# Altium integrated library ISSI SRAM CellularRAM-Pseudo SRAM.IntLib: 34 symbols (part 1 of 2)
Pins are listed as number, name and electrical type; pins without a type are passive.

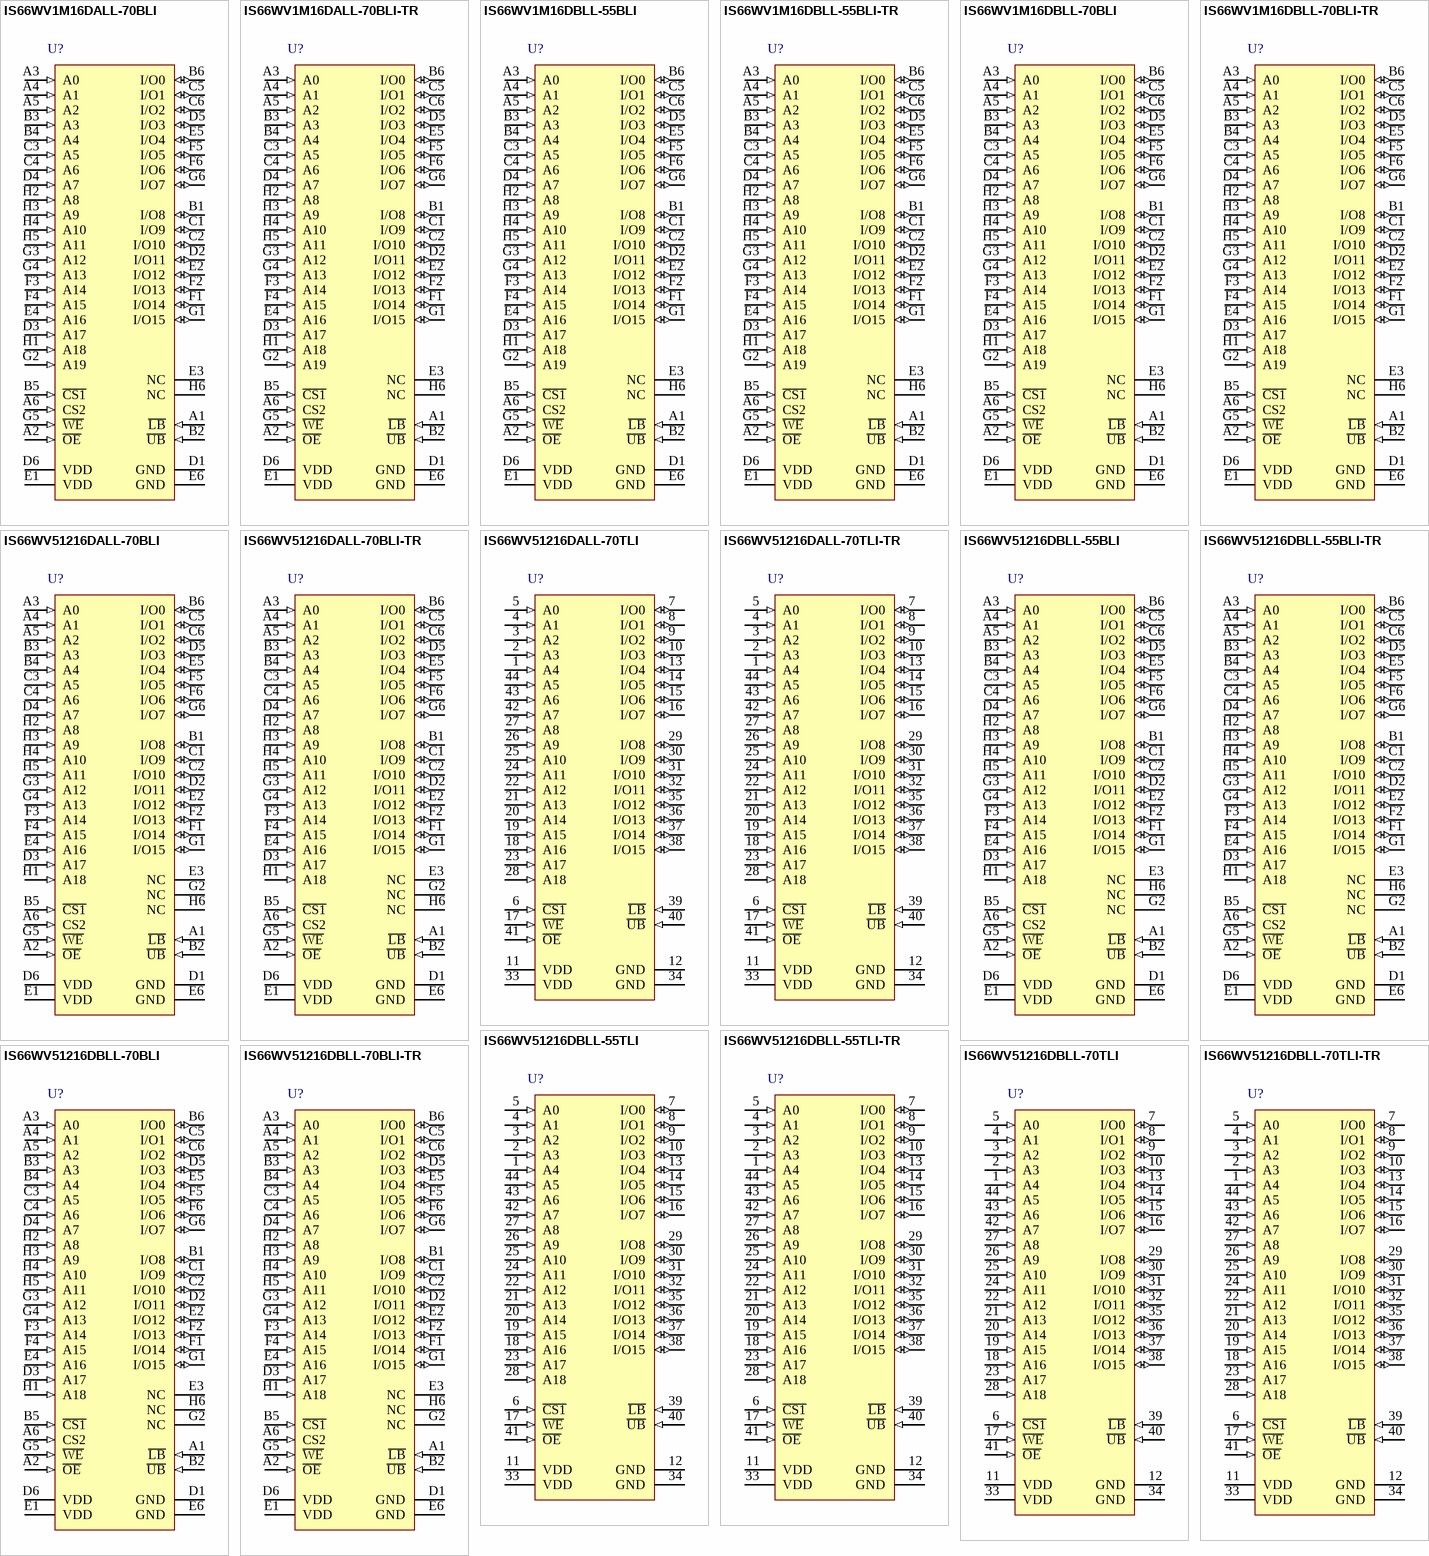
[diagram p0: symbols IS66WV1M16DALL-70BLI to IS66WV51216DBLL-70TLI-TR]

## IS66WV1M16DALL-70BLI
designator U?
16 M Low Voltage, Ultra Low Power Pseudo CMOS SRAM, 1 M x 16, -40 to 85 degC, 48-Pin BGA (TF-BGA-48), Pb-Free; Manufacturer: Integrated Silicon Solution Inc (ISSI); PartNumber: IS66WV1M16DALL-70BLI; Density: 16M; Organization: 1M x 16; Packing: Tray / Tube; Speed (ns): 70; DatasheetVersion: Rev. A; PackageVersion: Rev. C, 08/2008; PackageReference: TF-BGA-48; PackageDescription: 48-Pin 6 x 8 mm TF-BGA, Pitch 0.75 mm; RoHS: Pb-Free; Mounting Technology: Surface Mount; Code_JEDEC: MO-207; ComponentLink1Description: Manufacturer URL; ComponentLink1URL: http://www.issi.com/US/index.shtml; ComponentLink2Description: Datasheet; ComponentLink2URL: http://www.issi.com/WW/pdf/66WV1M16DALL-DBLL.pdf; ComponentLink3Description: Package Specification; ComponentLink3URL: http://www.issi.com/WW/pdf/61-64WV25616.pdf
footprint ISSI-TF-BGA-48-6000X8000DE (BGA, 48-Balls, Body 8x6mm, Pitch 0.75mm)
pins: A1 ~{LB} (in) "Lower-byte Control (I/O0-I/O7)", A2 ~{OE} (in) "Output Enable Input", A3 A0 (in) "Address Input", A4 A1 (in) "Address Input", A5 A2 (in) "Address Input", A6 CS2 (in) "Chip Enable Input", B1 I/O8 (io) "Data Input/Output", B2 ~{UB} (in) "Upper-byte Control (I/O8-I/O15)", B3 A3 (in) "Address Input", B4 A4 (in) "Address Input", B5 ~{CS1} (in) "Chip Enable Input", B6 I/O0 (io) "Data Input/Output", C1 I/O9 (io) "Data Input/Output", C2 I/O10 (io) "Data Input/Output", C3 A5 (in) "Address Input", C4 A6 (in) "Address Input", C5 I/O1 (io) "Data Input/Output", C6 I/O2 (io) "Data Input/Output", D1 GND (power) "Ground", D2 I/O11 (io) "Data Input/Output", D3 A17 (in) "Address Input", D4 A7 (in) "Address Input", D5 I/O3 (io) "Data Input/Output", D6 VDD (power) "Power", E1 VDD (power) "Power", E2 I/O12 (io) "Data Input/Output", E3 NC "No Connection", E4 A16 (in) "Address Input", E5 I/O4 (io) "Data Input/Output", E6 GND (power) "Ground", F1 I/O14 (io) "Data Input/Output", F2 I/O13 (io) "Data Input/Output", F3 A14 (in) "Address Input", F4 A15 (in) "Address Input", F5 I/O5 (io) "Data Input/Output", F6 I/O6 (io) "Data Input/Output", G1 I/O15 (io) "Data Input/Output", G2 A19 (in) "No Connection", G3 A12 (in) "Address Input", G4 A13 (in) "Address Input", G5 ~{WE} (in) "Write Enable Input", G6 I/O7 (io) "Data Input/Output", H1 A18 (in) "Address Input", H2 A8 (in) "Address Input", H3 A9 (in) "Address Input", H4 A10 (in) "Address Input", H5 A11 (in) "Address Input", H6 NC "No Connection"

## IS66WV1M16DALL-70BLI-TR
designator U?
16 M Low Voltage, Ultra Low Power Pseudo CMOS SRAM, 1 M x 16, -40 to 85 degC, 48-Pin BGA (TF-BGA-48), Pb-Free; Manufacturer: Integrated Silicon Solution Inc (ISSI); PartNumber: IS66WV1M16DALL-70BLI-TR; Density: 16M; Organization: 1M x 16; Packing: Tape & Reel; Speed (ns): 70; DatasheetVersion: Rev. A; PackageVersion: Rev. C, 08/2008; PackageReference: TF-BGA-48; PackageDescription: 48-Pin 6 x 8 mm TF-BGA, Pitch 0.75 mm; RoHS: Pb-Free; Mounting Technology: Surface Mount; Code_JEDEC: MO-207; ComponentLink1Description: Manufacturer URL; ComponentLink1URL: http://www.issi.com/US/index.shtml; ComponentLink2Description: Datasheet; ComponentLink2URL: http://www.issi.com/WW/pdf/66WV1M16DALL-DBLL.pdf; ComponentLink3Description: Package Specification; ComponentLink3URL: http://www.issi.com/WW/pdf/61-64WV25616.pdf
footprint ISSI-TF-BGA-48-6000X8000DE (BGA, 48-Balls, Body 8x6mm, Pitch 0.75mm)
pins: A1 ~{LB} (in) "Lower-byte Control (I/O0-I/O7)", A2 ~{OE} (in) "Output Enable Input", A3 A0 (in) "Address Input", A4 A1 (in) "Address Input", A5 A2 (in) "Address Input", A6 CS2 (in) "Chip Enable Input", B1 I/O8 (io) "Data Input/Output", B2 ~{UB} (in) "Upper-byte Control (I/O8-I/O15)", B3 A3 (in) "Address Input", B4 A4 (in) "Address Input", B5 ~{CS1} (in) "Chip Enable Input", B6 I/O0 (io) "Data Input/Output", C1 I/O9 (io) "Data Input/Output", C2 I/O10 (io) "Data Input/Output", C3 A5 (in) "Address Input", C4 A6 (in) "Address Input", C5 I/O1 (io) "Data Input/Output", C6 I/O2 (io) "Data Input/Output", D1 GND (power) "Ground", D2 I/O11 (io) "Data Input/Output", D3 A17 (in) "Address Input", D4 A7 (in) "Address Input", D5 I/O3 (io) "Data Input/Output", D6 VDD (power) "Power", E1 VDD (power) "Power", E2 I/O12 (io) "Data Input/Output", E3 NC "No Connection", E4 A16 (in) "Address Input", E5 I/O4 (io) "Data Input/Output", E6 GND (power) "Ground", F1 I/O14 (io) "Data Input/Output", F2 I/O13 (io) "Data Input/Output", F3 A14 (in) "Address Input", F4 A15 (in) "Address Input", F5 I/O5 (io) "Data Input/Output", F6 I/O6 (io) "Data Input/Output", G1 I/O15 (io) "Data Input/Output", G2 A19 (in) "No Connection", G3 A12 (in) "Address Input", G4 A13 (in) "Address Input", G5 ~{WE} (in) "Write Enable Input", G6 I/O7 (io) "Data Input/Output", H1 A18 (in) "Address Input", H2 A8 (in) "Address Input", H3 A9 (in) "Address Input", H4 A10 (in) "Address Input", H5 A11 (in) "Address Input", H6 NC "No Connection"

## IS66WV1M16DBLL-55BLI
designator U?
16 M Low Voltage, Ultra Low Power Pseudo CMOS SRAM, 1 M x 16, -40 to 85 degC, 48-Pin BGA (TF-BGA-48), Pb-Free; Manufacturer: Integrated Silicon Solution Inc (ISSI); PartNumber: IS66WV1M16DBLL-55BLI; Density: 16M; Organization: 1M x 16; Packing: Tray / Tube; Speed (ns): 55; DatasheetVersion: Rev. A; PackageVersion: Rev. C, 08/2008; PackageReference: TF-BGA-48; PackageDescription: 48-Pin 6 x 8 mm TF-BGA, Pitch 0.75 mm; Supplier 1: Newark; Supplier Part Number 1: 18W6964; Supplier 2: Mouser; Supplier Part Number 2: 870-66V1M16DBLL55BLI; RoHS: Pb-Free; Mounting Technology: Surface Mount; Code_JEDEC: MO-207; ComponentLink1Description: Manufacturer URL; ComponentLink1URL: http://www.issi.com/US/index.shtml; ComponentLink2Description: Datasheet; ComponentLink2URL: http://www.issi.com/WW/pdf/66WV1M16DALL-DBLL.pdf; ComponentLink3Description: Package Specification; ComponentLink3URL: http://www.issi.com/WW/pdf/61-64WV25616.pdf
footprint ISSI-TF-BGA-48-6000X8000DE (BGA, 48-Balls, Body 8x6mm, Pitch 0.75mm)
pins: A1 ~{LB} (in) "Lower-byte Control (I/O0-I/O7)", A2 ~{OE} (in) "Output Enable Input", A3 A0 (in) "Address Input", A4 A1 (in) "Address Input", A5 A2 (in) "Address Input", A6 CS2 (in) "Chip Enable Input", B1 I/O8 (io) "Data Input/Output", B2 ~{UB} (in) "Upper-byte Control (I/O8-I/O15)", B3 A3 (in) "Address Input", B4 A4 (in) "Address Input", B5 ~{CS1} (in) "Chip Enable Input", B6 I/O0 (io) "Data Input/Output", C1 I/O9 (io) "Data Input/Output", C2 I/O10 (io) "Data Input/Output", C3 A5 (in) "Address Input", C4 A6 (in) "Address Input", C5 I/O1 (io) "Data Input/Output", C6 I/O2 (io) "Data Input/Output", D1 GND (power) "Ground", D2 I/O11 (io) "Data Input/Output", D3 A17 (in) "Address Input", D4 A7 (in) "Address Input", D5 I/O3 (io) "Data Input/Output", D6 VDD (power) "Power", E1 VDD (power) "Power", E2 I/O12 (io) "Data Input/Output", E3 NC "No Connection", E4 A16 (in) "Address Input", E5 I/O4 (io) "Data Input/Output", E6 GND (power) "Ground", F1 I/O14 (io) "Data Input/Output", F2 I/O13 (io) "Data Input/Output", F3 A14 (in) "Address Input", F4 A15 (in) "Address Input", F5 I/O5 (io) "Data Input/Output", F6 I/O6 (io) "Data Input/Output", G1 I/O15 (io) "Data Input/Output", G2 A19 (in) "No Connection", G3 A12 (in) "Address Input", G4 A13 (in) "Address Input", G5 ~{WE} (in) "Write Enable Input", G6 I/O7 (io) "Data Input/Output", H1 A18 (in) "Address Input", H2 A8 (in) "Address Input", H3 A9 (in) "Address Input", H4 A10 (in) "Address Input", H5 A11 (in) "Address Input", H6 NC "No Connection"

## IS66WV1M16DBLL-55BLI-TR
designator U?
16 M Low Voltage, Ultra Low Power Pseudo CMOS SRAM, 1 M x 16, -40 to 85 degC, 48-Pin BGA (TF-BGA-48), Pb-Free; Manufacturer: Integrated Silicon Solution Inc (ISSI); PartNumber: IS66WV1M16DBLL-55BLI-TR; Density: 16M; Organization: 1M x 16; Packing: Tape & Reel; Speed (ns): 55; DatasheetVersion: Rev. A; PackageVersion: Rev. C, 08/2008; PackageReference: TF-BGA-48; PackageDescription: 48-Pin 6 x 8 mm TF-BGA, Pitch 0.75 mm; Supplier 1: Newark; Supplier Part Number 1: 18W6965; Supplier 2: Mouser; Supplier Part Number 2: 870-66WV1M16D55BLITR; RoHS: Pb-Free; Mounting Technology: Surface Mount; Code_JEDEC: MO-207; ComponentLink1Description: Manufacturer URL; ComponentLink1URL: http://www.issi.com/US/index.shtml; ComponentLink2Description: Datasheet; ComponentLink2URL: http://www.issi.com/WW/pdf/66WV1M16DALL-DBLL.pdf; ComponentLink3Description: Package Specification; ComponentLink3URL: http://www.issi.com/WW/pdf/61-64WV25616.pdf
footprint ISSI-TF-BGA-48-6000X8000DE (BGA, 48-Balls, Body 8x6mm, Pitch 0.75mm)
pins: A1 ~{LB} (in) "Lower-byte Control (I/O0-I/O7)", A2 ~{OE} (in) "Output Enable Input", A3 A0 (in) "Address Input", A4 A1 (in) "Address Input", A5 A2 (in) "Address Input", A6 CS2 (in) "Chip Enable Input", B1 I/O8 (io) "Data Input/Output", B2 ~{UB} (in) "Upper-byte Control (I/O8-I/O15)", B3 A3 (in) "Address Input", B4 A4 (in) "Address Input", B5 ~{CS1} (in) "Chip Enable Input", B6 I/O0 (io) "Data Input/Output", C1 I/O9 (io) "Data Input/Output", C2 I/O10 (io) "Data Input/Output", C3 A5 (in) "Address Input", C4 A6 (in) "Address Input", C5 I/O1 (io) "Data Input/Output", C6 I/O2 (io) "Data Input/Output", D1 GND (power) "Ground", D2 I/O11 (io) "Data Input/Output", D3 A17 (in) "Address Input", D4 A7 (in) "Address Input", D5 I/O3 (io) "Data Input/Output", D6 VDD (power) "Power", E1 VDD (power) "Power", E2 I/O12 (io) "Data Input/Output", E3 NC "No Connection", E4 A16 (in) "Address Input", E5 I/O4 (io) "Data Input/Output", E6 GND (power) "Ground", F1 I/O14 (io) "Data Input/Output", F2 I/O13 (io) "Data Input/Output", F3 A14 (in) "Address Input", F4 A15 (in) "Address Input", F5 I/O5 (io) "Data Input/Output", F6 I/O6 (io) "Data Input/Output", G1 I/O15 (io) "Data Input/Output", G2 A19 (in) "No Connection", G3 A12 (in) "Address Input", G4 A13 (in) "Address Input", G5 ~{WE} (in) "Write Enable Input", G6 I/O7 (io) "Data Input/Output", H1 A18 (in) "Address Input", H2 A8 (in) "Address Input", H3 A9 (in) "Address Input", H4 A10 (in) "Address Input", H5 A11 (in) "Address Input", H6 NC "No Connection"

## IS66WV1M16DBLL-70BLI
designator U?
16 M Low Voltage, Ultra Low Power Pseudo CMOS SRAM, 1 M x 16, -40 to 85 degC, 48-Pin BGA (TF-BGA-48), Pb-Free; Manufacturer: Integrated Silicon Solution Inc (ISSI); PartNumber: IS66WV1M16DBLL-70BLI; Density: 16M; Organization: 1M x 16; Packing: Tray / Tube; Speed (ns): 70; DatasheetVersion: Rev. A; PackageVersion: Rev. C, 08/2008; PackageReference: TF-BGA-48; PackageDescription: 48-Pin 6 x 8 mm TF-BGA, Pitch 0.75 mm; RoHS: Pb-Free; Mounting Technology: Surface Mount; Code_JEDEC: MO-207; ComponentLink1Description: Manufacturer URL; ComponentLink1URL: http://www.issi.com/US/index.shtml; ComponentLink2Description: Datasheet; ComponentLink2URL: http://www.issi.com/WW/pdf/66WV1M16DALL-DBLL.pdf; ComponentLink3Description: Package Specification; ComponentLink3URL: http://www.issi.com/WW/pdf/61-64WV25616.pdf
footprint ISSI-TF-BGA-48-6000X8000DE (BGA, 48-Balls, Body 8x6mm, Pitch 0.75mm)
pins: A1 ~{LB} (in) "Lower-byte Control (I/O0-I/O7)", A2 ~{OE} (in) "Output Enable Input", A3 A0 (in) "Address Input", A4 A1 (in) "Address Input", A5 A2 (in) "Address Input", A6 CS2 (in) "Chip Enable Input", B1 I/O8 (io) "Data Input/Output", B2 ~{UB} (in) "Upper-byte Control (I/O8-I/O15)", B3 A3 (in) "Address Input", B4 A4 (in) "Address Input", B5 ~{CS1} (in) "Chip Enable Input", B6 I/O0 (io) "Data Input/Output", C1 I/O9 (io) "Data Input/Output", C2 I/O10 (io) "Data Input/Output", C3 A5 (in) "Address Input", C4 A6 (in) "Address Input", C5 I/O1 (io) "Data Input/Output", C6 I/O2 (io) "Data Input/Output", D1 GND (power) "Ground", D2 I/O11 (io) "Data Input/Output", D3 A17 (in) "Address Input", D4 A7 (in) "Address Input", D5 I/O3 (io) "Data Input/Output", D6 VDD (power) "Power", E1 VDD (power) "Power", E2 I/O12 (io) "Data Input/Output", E3 NC "No Connection", E4 A16 (in) "Address Input", E5 I/O4 (io) "Data Input/Output", E6 GND (power) "Ground", F1 I/O14 (io) "Data Input/Output", F2 I/O13 (io) "Data Input/Output", F3 A14 (in) "Address Input", F4 A15 (in) "Address Input", F5 I/O5 (io) "Data Input/Output", F6 I/O6 (io) "Data Input/Output", G1 I/O15 (io) "Data Input/Output", G2 A19 (in) "No Connection", G3 A12 (in) "Address Input", G4 A13 (in) "Address Input", G5 ~{WE} (in) "Write Enable Input", G6 I/O7 (io) "Data Input/Output", H1 A18 (in) "Address Input", H2 A8 (in) "Address Input", H3 A9 (in) "Address Input", H4 A10 (in) "Address Input", H5 A11 (in) "Address Input", H6 NC "No Connection"

## IS66WV1M16DBLL-70BLI-TR
designator U?
16 M Low Voltage, Ultra Low Power Pseudo CMOS SRAM, 1 M x 16, -40 to 85 degC, 48-Pin BGA (TF-BGA-48), Pb-Free; Manufacturer: Integrated Silicon Solution Inc (ISSI); PartNumber: IS66WV1M16DBLL-70BLI-TR; Density: 16M; Organization: 1M x 16; Packing: Tape & Reel; Speed (ns): 70; DatasheetVersion: Rev. A; PackageVersion: Rev. C, 08/2008; PackageReference: TF-BGA-48; PackageDescription: 48-Pin 6 x 8 mm TF-BGA, Pitch 0.75 mm; RoHS: Pb-Free; Mounting Technology: Surface Mount; Code_JEDEC: MO-207; ComponentLink1Description: Manufacturer URL; ComponentLink1URL: http://www.issi.com/US/index.shtml; ComponentLink2Description: Datasheet; ComponentLink2URL: http://www.issi.com/WW/pdf/66WV1M16DALL-DBLL.pdf; ComponentLink3Description: Package Specification; ComponentLink3URL: http://www.issi.com/WW/pdf/61-64WV25616.pdf
footprint ISSI-TF-BGA-48-6000X8000DE (BGA, 48-Balls, Body 8x6mm, Pitch 0.75mm)
pins: A1 ~{LB} (in) "Lower-byte Control (I/O0-I/O7)", A2 ~{OE} (in) "Output Enable Input", A3 A0 (in) "Address Input", A4 A1 (in) "Address Input", A5 A2 (in) "Address Input", A6 CS2 (in) "Chip Enable Input", B1 I/O8 (io) "Data Input/Output", B2 ~{UB} (in) "Upper-byte Control (I/O8-I/O15)", B3 A3 (in) "Address Input", B4 A4 (in) "Address Input", B5 ~{CS1} (in) "Chip Enable Input", B6 I/O0 (io) "Data Input/Output", C1 I/O9 (io) "Data Input/Output", C2 I/O10 (io) "Data Input/Output", C3 A5 (in) "Address Input", C4 A6 (in) "Address Input", C5 I/O1 (io) "Data Input/Output", C6 I/O2 (io) "Data Input/Output", D1 GND (power) "Ground", D2 I/O11 (io) "Data Input/Output", D3 A17 (in) "Address Input", D4 A7 (in) "Address Input", D5 I/O3 (io) "Data Input/Output", D6 VDD (power) "Power", E1 VDD (power) "Power", E2 I/O12 (io) "Data Input/Output", E3 NC "No Connection", E4 A16 (in) "Address Input", E5 I/O4 (io) "Data Input/Output", E6 GND (power) "Ground", F1 I/O14 (io) "Data Input/Output", F2 I/O13 (io) "Data Input/Output", F3 A14 (in) "Address Input", F4 A15 (in) "Address Input", F5 I/O5 (io) "Data Input/Output", F6 I/O6 (io) "Data Input/Output", G1 I/O15 (io) "Data Input/Output", G2 A19 (in) "No Connection", G3 A12 (in) "Address Input", G4 A13 (in) "Address Input", G5 ~{WE} (in) "Write Enable Input", G6 I/O7 (io) "Data Input/Output", H1 A18 (in) "Address Input", H2 A8 (in) "Address Input", H3 A9 (in) "Address Input", H4 A10 (in) "Address Input", H5 A11 (in) "Address Input", H6 NC "No Connection"

## IS66WV51216DALL-70BLI
designator U?
8 M Low Voltage, Ultra Low Power Pseudo CMOS SRAM, 512 K x 16, -40 to 85 degC, 48-Pin BGA (TF-BGA-48), Pb-Free; Manufacturer: Integrated Silicon Solution Inc (ISSI); PartNumber: IS66WV51216DALL-70BLI; Density: 8M; Packing: Tray / Tube; Speed (ns): 70; DatasheetVersion: Rev. A; PackageVersion: Rev. C, 08/2008; PackageReference: TF-BGA-48; PackageDescription: 48-Pin 6 x 8 mm TF-BGA, Pitch 0.75 mm; Organization: 512K x 16; RoHS: Pb-Free; Mounting Technology: Surface Mount; Code_JEDEC: MO-207; ComponentLink1Description: Manufacturer URL; ComponentLink1URL: http://www.issi.com/US/index.shtml; ComponentLink2Description: Datasheet; ComponentLink2URL: http://www.issi.com/WW/pdf/66WV51216DALL-DBLL.pdf; ComponentLink3Description: Package Specification; ComponentLink3URL: http://www.issi.com/WW/pdf/61-64WV25616.pdf
footprint ISSI-TF-BGA-48-6000X8000DE (BGA, 48-Balls, Body 8x6mm, Pitch 0.75mm)
pins: A1 ~{LB} (in) "Lower-byte Control (I/O0-I/O7)", A2 ~{OE} (in) "Output Enable Input", A3 A0 (in) "Address Input", A4 A1 (in) "Address Input", A5 A2 (in) "Address Input", A6 CS2 (in) "Chip Enable Input", B1 I/O8 (io) "Data Input/Output", B2 ~{UB} (in) "Upper-byte Control (I/O8-I/O15)", B3 A3 (in) "Address Input", B4 A4 (in) "Address Input", B5 ~{CS1} (in) "Chip Enable Input", B6 I/O0 (io) "Data Input/Output", C1 I/O9 (io) "Data Input/Output", C2 I/O10 (io) "Data Input/Output", C3 A5 (in) "Address Input", C4 A6 (in) "Address Input", C5 I/O1 (io) "Data Input/Output", C6 I/O2 (io) "Data Input/Output", D1 GND (power) "Ground", D2 I/O11 (io) "Data Input/Output", D3 A17 (in) "Address Input", D4 A7 (in) "Address Input", D5 I/O3 (io) "Data Input/Output", D6 VDD (power) "Power", E1 VDD (power) "Power", E2 I/O12 (io) "Data Input/Output", E3 NC "No Connection", E4 A16 (in) "Address Input", E5 I/O4 (io) "Data Input/Output", E6 GND (power) "Ground", F1 I/O14 (io) "Data Input/Output", F2 I/O13 (io) "Data Input/Output", F3 A14 (in) "Address Input", F4 A15 (in) "Address Input", F5 I/O5 (io) "Data Input/Output", F6 I/O6 (io) "Data Input/Output", G1 I/O15 (io) "Data Input/Output", G2 NC "No Connection", G3 A12 (in) "Address Input", G4 A13 (in) "Address Input", G5 ~{WE} (in) "Write Enable Input", G6 I/O7 (io) "Data Input/Output", H1 A18 (in) "Address Input", H2 A8 (in) "Address Input", H3 A9 (in) "Address Input", H4 A10 (in) "Address Input", H5 A11 (in) "Address Input", H6 NC "No Connection"

## IS66WV51216DALL-70BLI-TR
designator U?
8 M Low Voltage, Ultra Low Power Pseudo CMOS SRAM, 512 K x 16, -40 to 85 degC, 48-Pin BGA (TF-BGA-48), Pb-Free; Manufacturer: Integrated Silicon Solution Inc (ISSI); PartNumber: IS66WV51216DALL-70BLI-TR; Density: 8M; Packing: Tape & Reel; Speed (ns): 70; DatasheetVersion: Rev. A; PackageVersion: Rev. C, 08/2008; PackageReference: TF-BGA-48; PackageDescription: 48-Pin 6 x 8 mm TF-BGA, Pitch 0.75 mm; Organization: 512K x 16; RoHS: Pb-Free; Mounting Technology: Surface Mount; Code_JEDEC: MO-207; ComponentLink1Description: Manufacturer URL; ComponentLink1URL: http://www.issi.com/US/index.shtml; ComponentLink2Description: Datasheet; ComponentLink2URL: http://www.issi.com/WW/pdf/66WV51216DALL-DBLL.pdf; ComponentLink3Description: Package Specification; ComponentLink3URL: http://www.issi.com/WW/pdf/61-64WV25616.pdf
footprint ISSI-TF-BGA-48-6000X8000DE (BGA, 48-Balls, Body 8x6mm, Pitch 0.75mm)
pins: A1 ~{LB} (in) "Lower-byte Control (I/O0-I/O7)", A2 ~{OE} (in) "Output Enable Input", A3 A0 (in) "Address Input", A4 A1 (in) "Address Input", A5 A2 (in) "Address Input", A6 CS2 (in) "Chip Enable Input", B1 I/O8 (io) "Data Input/Output", B2 ~{UB} (in) "Upper-byte Control (I/O8-I/O15)", B3 A3 (in) "Address Input", B4 A4 (in) "Address Input", B5 ~{CS1} (in) "Chip Enable Input", B6 I/O0 (io) "Data Input/Output", C1 I/O9 (io) "Data Input/Output", C2 I/O10 (io) "Data Input/Output", C3 A5 (in) "Address Input", C4 A6 (in) "Address Input", C5 I/O1 (io) "Data Input/Output", C6 I/O2 (io) "Data Input/Output", D1 GND (power) "Ground", D2 I/O11 (io) "Data Input/Output", D3 A17 (in) "Address Input", D4 A7 (in) "Address Input", D5 I/O3 (io) "Data Input/Output", D6 VDD (power) "Power", E1 VDD (power) "Power", E2 I/O12 (io) "Data Input/Output", E3 NC "No Connection", E4 A16 (in) "Address Input", E5 I/O4 (io) "Data Input/Output", E6 GND (power) "Ground", F1 I/O14 (io) "Data Input/Output", F2 I/O13 (io) "Data Input/Output", F3 A14 (in) "Address Input", F4 A15 (in) "Address Input", F5 I/O5 (io) "Data Input/Output", F6 I/O6 (io) "Data Input/Output", G1 I/O15 (io) "Data Input/Output", G2 NC "No Connection", G3 A12 (in) "Address Input", G4 A13 (in) "Address Input", G5 ~{WE} (in) "Write Enable Input", G6 I/O7 (io) "Data Input/Output", H1 A18 (in) "Address Input", H2 A8 (in) "Address Input", H3 A9 (in) "Address Input", H4 A10 (in) "Address Input", H5 A11 (in) "Address Input", H6 NC "No Connection"

## IS66WV51216DALL-70TLI
designator U?
8 M Low Voltage, Ultra Low Power Pseudo CMOS SRAM, 512 K x 16, -40 to 85 degC, 44-Pin SOP (TSOP-2-44), Pb-Free; Manufacturer: Integrated Silicon Solution Inc (ISSI); PartNumber: IS66WV51216DALL-70TLI; Density: 8M; Packing: Tray / Tube; Speed (ns): 70; DatasheetVersion: Rev. A; PackageVersion: Rev. F, 06/2008; PackageReference: TSOP-2-44; PackageDescription: 44-Pin 400 mil TSOP-2, Body 18.41 x 10.16 mm, Pitch 0.8 mm; Organization: 512K x 16; RoHS: Pb-Free; Mounting Technology: Surface Mount; ComponentLink1Description: Manufacturer URL; ComponentLink1URL: http://www.issi.com/US/index.shtml; ComponentLink2Description: Datasheet; ComponentLink2URL: http://www.issi.com/WW/pdf/66WV51216DALL-DBLL.pdf; ComponentLink3Description: Package Specification; ComponentLink3URL: http://www.issi.com/WW/pdf/61-64WV6416EEBLL.pdf
footprint ISSI-TSOP-2-44_N (SOP, 44-Leads, Body 18.5x10.3mm, Pitch 0.8mm, IPC Medium Density)
pins: 1 A4 (in) "Address Inputs", 2 A3 (in) "Address Inputs", 3 A2 (in) "Address Inputs", 4 A1 (in) "Address Inputs", 5 A0 (in) "Address Inputs", 6 ~{CS1} (in) "Chip Enable Input", 7 I/O0 (io) "Data Inputs/Outputs", 8 I/O1 (io) "Data Inputs/Outputs", 9 I/O2 (io) "Data Inputs/Outputs", 10 I/O3 (io) "Data Inputs/Outputs", 11 VDD (power) "Power", 12 GND (power) "Ground", 13 I/O4 (io) "Data Inputs/Outputs", 14 I/O5 (io) "Data Inputs/Outputs", 15 I/O6 (io) "Data Inputs/Outputs", 16 I/O7 (io) "Data Inputs/Outputs", 17 ~{WE} (in) "Write Enable Input", 18 A16 (in) "Address Inputs", 19 A15 (in) "Address Inputs", 20 A14 (in) "Address Inputs", 21 A13 (in) "Address Inputs", 22 A12 (in) "Address Inputs", 23 A17 (in) "Address Inputs", 24 A11 (in) "Address Inputs", 25 A10 (in) "Address Inputs", 26 A9 (in) "Address Inputs", 27 A8 (in) "Address Inputs", 28 A18 (in) "Address Inputs", 29 I/O8 (io) "Data Inputs/Outputs", 30 I/O9 (io) "Data Inputs/Outputs", 31 I/O10 (io) "Data Inputs/Outputs", 32 I/O11 (io) "Data Inputs/Outputs", 33 VDD (power) "Power", 34 GND (power) "Ground", 35 I/O12 (io) "Data Inputs/Outputs", 36 I/O13 (io) "Data Inputs/Outputs", 37 I/O14 (io) "Data Inputs/Outputs", 38 I/O15 (io) "Data Inputs/Outputs", 39 ~{LB} (in) "Lower-byte Control (I/O0-I/O7)", 40 ~{UB} (in) "Upper-byte Control (I/O8-I/O15)", 41 ~{OE} (in) "Output Enable Input", 42 A7 (in) "Address Inputs", 43 A6 (in) "Address Inputs", 44 A5 (in) "Address Inputs"

## IS66WV51216DALL-70TLI-TR
designator U?
8 M Low Voltage, Ultra Low Power Pseudo CMOS SRAM, 512 K x 16, -40 to 85 degC, 44-Pin SOP (TSOP-2-44), Pb-Free; Manufacturer: Integrated Silicon Solution Inc (ISSI); PartNumber: IS66WV51216DALL-70TLI-TR; Density: 8M; Packing: Tape & Reel; Speed (ns): 70; DatasheetVersion: Rev. A; PackageVersion: Rev. F, 06/2008; PackageReference: TSOP-2-44; PackageDescription: 44-Pin 400 mil TSOP-2, Body 18.41 x 10.16 mm, Pitch 0.8 mm; Organization: 512K x 16; RoHS: Pb-Free; Mounting Technology: Surface Mount; ComponentLink1Description: Manufacturer URL; ComponentLink1URL: http://www.issi.com/US/index.shtml; ComponentLink2Description: Datasheet; ComponentLink2URL: http://www.issi.com/WW/pdf/66WV51216DALL-DBLL.pdf; ComponentLink3Description: Package Specification; ComponentLink3URL: http://www.issi.com/WW/pdf/61-64WV6416EEBLL.pdf
footprint ISSI-TSOP-2-44_N (SOP, 44-Leads, Body 18.5x10.3mm, Pitch 0.8mm, IPC Medium Density)
pins: 1 A4 (in) "Address Inputs", 2 A3 (in) "Address Inputs", 3 A2 (in) "Address Inputs", 4 A1 (in) "Address Inputs", 5 A0 (in) "Address Inputs", 6 ~{CS1} (in) "Chip Enable Input", 7 I/O0 (io) "Data Inputs/Outputs", 8 I/O1 (io) "Data Inputs/Outputs", 9 I/O2 (io) "Data Inputs/Outputs", 10 I/O3 (io) "Data Inputs/Outputs", 11 VDD (power) "Power", 12 GND (power) "Ground", 13 I/O4 (io) "Data Inputs/Outputs", 14 I/O5 (io) "Data Inputs/Outputs", 15 I/O6 (io) "Data Inputs/Outputs", 16 I/O7 (io) "Data Inputs/Outputs", 17 ~{WE} (in) "Write Enable Input", 18 A16 (in) "Address Inputs", 19 A15 (in) "Address Inputs", 20 A14 (in) "Address Inputs", 21 A13 (in) "Address Inputs", 22 A12 (in) "Address Inputs", 23 A17 (in) "Address Inputs", 24 A11 (in) "Address Inputs", 25 A10 (in) "Address Inputs", 26 A9 (in) "Address Inputs", 27 A8 (in) "Address Inputs", 28 A18 (in) "Address Inputs", 29 I/O8 (io) "Data Inputs/Outputs", 30 I/O9 (io) "Data Inputs/Outputs", 31 I/O10 (io) "Data Inputs/Outputs", 32 I/O11 (io) "Data Inputs/Outputs", 33 VDD (power) "Power", 34 GND (power) "Ground", 35 I/O12 (io) "Data Inputs/Outputs", 36 I/O13 (io) "Data Inputs/Outputs", 37 I/O14 (io) "Data Inputs/Outputs", 38 I/O15 (io) "Data Inputs/Outputs", 39 ~{LB} (in) "Lower-byte Control (I/O0-I/O7)", 40 ~{UB} (in) "Upper-byte Control (I/O8-I/O15)", 41 ~{OE} (in) "Output Enable Input", 42 A7 (in) "Address Inputs", 43 A6 (in) "Address Inputs", 44 A5 (in) "Address Inputs"

## IS66WV51216DBLL-55BLI
designator U?
8 M Low Voltage, Ultra Low Power Pseudo CMOS SRAM, 512 K x 16, -40 to 85 degC, 48-Pin BGA (TF-BGA-48), Pb-Free; Manufacturer: Integrated Silicon Solution Inc (ISSI); PartNumber: IS66WV51216DBLL-55BLI; Density: 8M; Packing: Tray / Tube; Speed (ns): 55; DatasheetVersion: Rev. A; PackageVersion: Rev. C, 08/2008; PackageReference: TF-BGA-48; PackageDescription: 48-Pin 6 x 8 mm TF-BGA, Pitch 0.75 mm; Supplier 1: Newark; Supplier Part Number 1: 52T1745; Supplier 2: Mouser; Supplier Part Number 2: 870-66WV51216DB55BLI; Organization: 512K x 16; RoHS: Pb-Free; Mounting Technology: Surface Mount; Code_JEDEC: MO-207; ComponentLink1Description: Manufacturer URL; ComponentLink1URL: http://www.issi.com/US/index.shtml; ComponentLink2Description: Datasheet; ComponentLink2URL: http://www.issi.com/WW/pdf/66WV51216DALL-DBLL.pdf; ComponentLink3Description: Package Specification; ComponentLink3URL: http://www.issi.com/WW/pdf/61-64WV25616.pdf
footprint ISSI-TF-BGA-48-6000X8000DE (BGA, 48-Balls, Body 8x6mm, Pitch 0.75mm)
pins: A1 ~{LB} (in) "Lower-byte Control (I/O0-I/O7)", A2 ~{OE} (in) "Output Enable Input", A3 A0 (in) "Address Input", A4 A1 (in) "Address Input", A5 A2 (in) "Address Input", A6 CS2 (in) "Chip Enable Input", B1 I/O8 (io) "Data Input/Output", B2 ~{UB} (in) "Upper-byte Control (I/O8-I/O15)", B3 A3 (in) "Address Input", B4 A4 (in) "Address Input", B5 ~{CS1} (in) "Chip Enable Input", B6 I/O0 (io) "Data Input/Output", C1 I/O9 (io) "Data Input/Output", C2 I/O10 (io) "Data Input/Output", C3 A5 (in) "Address Input", C4 A6 (in) "Address Input", C5 I/O1 (io) "Data Input/Output", C6 I/O2 (io) "Data Input/Output", D1 GND (power) "Ground", D2 I/O11 (io) "Data Input/Output", D3 A17 (in) "Address Input", D4 A7 (in) "Address Input", D5 I/O3 (io) "Data Input/Output", D6 VDD (power) "Power", E1 VDD (power) "Power", E2 I/O12 (io) "Data Input/Output", E3 NC "No Connection", E4 A16 (in) "Address Input", E5 I/O4 (io) "Data Input/Output", E6 GND (power) "Ground", F1 I/O14 (io) "Data Input/Output", F2 I/O13 (io) "Data Input/Output", F3 A14 (in) "Address Input", F4 A15 (in) "Address Input", F5 I/O5 (io) "Data Input/Output", F6 I/O6 (io) "Data Input/Output", G1 I/O15 (io) "Data Input/Output", G2 NC "No Connection", G3 A12 (in) "Address Input", G4 A13 (in) "Address Input", G5 ~{WE} (in) "Write Enable Input", G6 I/O7 (io) "Data Input/Output", H1 A18 (in) "Address Input", H2 A8 (in) "Address Input", H3 A9 (in) "Address Input", H4 A10 (in) "Address Input", H5 A11 (in) "Address Input", H6 NC "No Connection"

## IS66WV51216DBLL-55BLI-TR
designator U?
8 M Low Voltage, Ultra Low Power Pseudo CMOS SRAM, 512 K x 16, -40 to 85 degC, 48-Pin BGA (TF-BGA-48), Pb-Free; Manufacturer: Integrated Silicon Solution Inc (ISSI); PartNumber: IS66WV51216DBLL-55BLI-TR; Density: 8M; Packing: Tape & Reel; Speed (ns): 55; DatasheetVersion: Rev. A; PackageVersion: Rev. C, 08/2008; PackageReference: TF-BGA-48; PackageDescription: 48-Pin 6 x 8 mm TF-BGA, Pitch 0.75 mm; Supplier 1: Newark; Supplier Part Number 1: 52T1746; Supplier 2: Mouser; Supplier Part Number 2: 870-66WV51216DB5BLIT; Organization: 512K x 16; RoHS: Pb-Free; Mounting Technology: Surface Mount; Code_JEDEC: MO-207; ComponentLink1Description: Manufacturer URL; ComponentLink1URL: http://www.issi.com/US/index.shtml; ComponentLink2Description: Datasheet; ComponentLink2URL: http://www.issi.com/WW/pdf/66WV51216DALL-DBLL.pdf; ComponentLink3Description: Package Specification; ComponentLink3URL: http://www.issi.com/WW/pdf/61-64WV25616.pdf
footprint ISSI-TF-BGA-48-6000X8000DE (BGA, 48-Balls, Body 8x6mm, Pitch 0.75mm)
pins: A1 ~{LB} (in) "Lower-byte Control (I/O0-I/O7)", A2 ~{OE} (in) "Output Enable Input", A3 A0 (in) "Address Input", A4 A1 (in) "Address Input", A5 A2 (in) "Address Input", A6 CS2 (in) "Chip Enable Input", B1 I/O8 (io) "Data Input/Output", B2 ~{UB} (in) "Upper-byte Control (I/O8-I/O15)", B3 A3 (in) "Address Input", B4 A4 (in) "Address Input", B5 ~{CS1} (in) "Chip Enable Input", B6 I/O0 (io) "Data Input/Output", C1 I/O9 (io) "Data Input/Output", C2 I/O10 (io) "Data Input/Output", C3 A5 (in) "Address Input", C4 A6 (in) "Address Input", C5 I/O1 (io) "Data Input/Output", C6 I/O2 (io) "Data Input/Output", D1 GND (power) "Ground", D2 I/O11 (io) "Data Input/Output", D3 A17 (in) "Address Input", D4 A7 (in) "Address Input", D5 I/O3 (io) "Data Input/Output", D6 VDD (power) "Power", E1 VDD (power) "Power", E2 I/O12 (io) "Data Input/Output", E3 NC "No Connection", E4 A16 (in) "Address Input", E5 I/O4 (io) "Data Input/Output", E6 GND (power) "Ground", F1 I/O14 (io) "Data Input/Output", F2 I/O13 (io) "Data Input/Output", F3 A14 (in) "Address Input", F4 A15 (in) "Address Input", F5 I/O5 (io) "Data Input/Output", F6 I/O6 (io) "Data Input/Output", G1 I/O15 (io) "Data Input/Output", G2 NC "No Connection", G3 A12 (in) "Address Input", G4 A13 (in) "Address Input", G5 ~{WE} (in) "Write Enable Input", G6 I/O7 (io) "Data Input/Output", H1 A18 (in) "Address Input", H2 A8 (in) "Address Input", H3 A9 (in) "Address Input", H4 A10 (in) "Address Input", H5 A11 (in) "Address Input", H6 NC "No Connection"

## IS66WV51216DBLL-55TLI
designator U?
8 M Low Voltage, Ultra Low Power Pseudo CMOS SRAM, 512 K x 16, -40 to 85 degC, 44-Pin SOP (TSOP-2-44), Pb-Free; Manufacturer: Integrated Silicon Solution Inc (ISSI); PartNumber: IS66WV51216DBLL-55TLI; Density: 8M; Packing: Tray / Tube; Speed (ns): 55; DatasheetVersion: Rev. A; PackageVersion: Rev. F, 06/2008; PackageReference: TSOP-2-44; PackageDescription: 44-Pin 400 mil TSOP-2, Body 18.41 x 10.16 mm, Pitch 0.8 mm; Supplier 1: Newark; Supplier Part Number 1: 43T5346; Supplier 2: Mouser; Supplier Part Number 2: 870-66WV51216DB55TLI; Organization: 512K x 16; RoHS: Pb-Free; Mounting Technology: Surface Mount; ComponentLink1Description: Manufacturer URL; ComponentLink1URL: http://www.issi.com/US/index.shtml; ComponentLink2Description: Datasheet; ComponentLink2URL: http://www.issi.com/WW/pdf/66WV51216DALL-DBLL.pdf; ComponentLink3Description: Package Specification; ComponentLink3URL: http://www.issi.com/WW/pdf/61-64WV6416EEBLL.pdf
footprint ISSI-TSOP-2-44_N (SOP, 44-Leads, Body 18.5x10.3mm, Pitch 0.8mm, IPC Medium Density)
pins: 1 A4 (in) "Address Inputs", 2 A3 (in) "Address Inputs", 3 A2 (in) "Address Inputs", 4 A1 (in) "Address Inputs", 5 A0 (in) "Address Inputs", 6 ~{CS1} (in) "Chip Enable Input", 7 I/O0 (io) "Data Inputs/Outputs", 8 I/O1 (io) "Data Inputs/Outputs", 9 I/O2 (io) "Data Inputs/Outputs", 10 I/O3 (io) "Data Inputs/Outputs", 11 VDD (power) "Power", 12 GND (power) "Ground", 13 I/O4 (io) "Data Inputs/Outputs", 14 I/O5 (io) "Data Inputs/Outputs", 15 I/O6 (io) "Data Inputs/Outputs", 16 I/O7 (io) "Data Inputs/Outputs", 17 ~{WE} (in) "Write Enable Input", 18 A16 (in) "Address Inputs", 19 A15 (in) "Address Inputs", 20 A14 (in) "Address Inputs", 21 A13 (in) "Address Inputs", 22 A12 (in) "Address Inputs", 23 A17 (in) "Address Inputs", 24 A11 (in) "Address Inputs", 25 A10 (in) "Address Inputs", 26 A9 (in) "Address Inputs", 27 A8 (in) "Address Inputs", 28 A18 (in) "Address Inputs", 29 I/O8 (io) "Data Inputs/Outputs", 30 I/O9 (io) "Data Inputs/Outputs", 31 I/O10 (io) "Data Inputs/Outputs", 32 I/O11 (io) "Data Inputs/Outputs", 33 VDD (power) "Power", 34 GND (power) "Ground", 35 I/O12 (io) "Data Inputs/Outputs", 36 I/O13 (io) "Data Inputs/Outputs", 37 I/O14 (io) "Data Inputs/Outputs", 38 I/O15 (io) "Data Inputs/Outputs", 39 ~{LB} (in) "Lower-byte Control (I/O0-I/O7)", 40 ~{UB} (in) "Upper-byte Control (I/O8-I/O15)", 41 ~{OE} (in) "Output Enable Input", 42 A7 (in) "Address Inputs", 43 A6 (in) "Address Inputs", 44 A5 (in) "Address Inputs"

## IS66WV51216DBLL-55TLI-TR
designator U?
8 M Low Voltage, Ultra Low Power Pseudo CMOS SRAM, 512 K x 16, -40 to 85 degC, 44-Pin SOP (TSOP-2-44), Pb-Free; Manufacturer: Integrated Silicon Solution Inc (ISSI); PartNumber: IS66WV51216DBLL-55TLI-TR; Density: 8M; Packing: Tape & Reel; Speed (ns): 55; DatasheetVersion: Rev. A; PackageVersion: Rev. F, 06/2008; PackageReference: TSOP-2-44; PackageDescription: 44-Pin 400 mil TSOP-2, Body 18.41 x 10.16 mm, Pitch 0.8 mm; Supplier 1: Newark; Supplier Part Number 1: 43T5347; Supplier 2: Mouser; Supplier Part Number 2: 870-66WV51216DB55TLT; Organization: 512K x 16; RoHS: Pb-Free; Mounting Technology: Surface Mount; ComponentLink1Description: Manufacturer URL; ComponentLink1URL: http://www.issi.com/US/index.shtml; ComponentLink2Description: Datasheet; ComponentLink2URL: http://www.issi.com/WW/pdf/66WV51216DALL-DBLL.pdf; ComponentLink3Description: Package Specification; ComponentLink3URL: http://www.issi.com/WW/pdf/61-64WV6416EEBLL.pdf
footprint ISSI-TSOP-2-44_N (SOP, 44-Leads, Body 18.5x10.3mm, Pitch 0.8mm, IPC Medium Density)
pins: 1 A4 (in) "Address Inputs", 2 A3 (in) "Address Inputs", 3 A2 (in) "Address Inputs", 4 A1 (in) "Address Inputs", 5 A0 (in) "Address Inputs", 6 ~{CS1} (in) "Chip Enable Input", 7 I/O0 (io) "Data Inputs/Outputs", 8 I/O1 (io) "Data Inputs/Outputs", 9 I/O2 (io) "Data Inputs/Outputs", 10 I/O3 (io) "Data Inputs/Outputs", 11 VDD (power) "Power", 12 GND (power) "Ground", 13 I/O4 (io) "Data Inputs/Outputs", 14 I/O5 (io) "Data Inputs/Outputs", 15 I/O6 (io) "Data Inputs/Outputs", 16 I/O7 (io) "Data Inputs/Outputs", 17 ~{WE} (in) "Write Enable Input", 18 A16 (in) "Address Inputs", 19 A15 (in) "Address Inputs", 20 A14 (in) "Address Inputs", 21 A13 (in) "Address Inputs", 22 A12 (in) "Address Inputs", 23 A17 (in) "Address Inputs", 24 A11 (in) "Address Inputs", 25 A10 (in) "Address Inputs", 26 A9 (in) "Address Inputs", 27 A8 (in) "Address Inputs", 28 A18 (in) "Address Inputs", 29 I/O8 (io) "Data Inputs/Outputs", 30 I/O9 (io) "Data Inputs/Outputs", 31 I/O10 (io) "Data Inputs/Outputs", 32 I/O11 (io) "Data Inputs/Outputs", 33 VDD (power) "Power", 34 GND (power) "Ground", 35 I/O12 (io) "Data Inputs/Outputs", 36 I/O13 (io) "Data Inputs/Outputs", 37 I/O14 (io) "Data Inputs/Outputs", 38 I/O15 (io) "Data Inputs/Outputs", 39 ~{LB} (in) "Lower-byte Control (I/O0-I/O7)", 40 ~{UB} (in) "Upper-byte Control (I/O8-I/O15)", 41 ~{OE} (in) "Output Enable Input", 42 A7 (in) "Address Inputs", 43 A6 (in) "Address Inputs", 44 A5 (in) "Address Inputs"

## IS66WV51216DBLL-70BLI
designator U?
8 M Low Voltage, Ultra Low Power Pseudo CMOS SRAM, 512 K x 16, -40 to 85 degC, 48-Pin BGA (TF-BGA-48), Pb-Free; Manufacturer: Integrated Silicon Solution Inc (ISSI); PartNumber: IS66WV51216DBLL-70BLI; Density: 8M; Packing: Tray / Tube; Speed (ns): 70; DatasheetVersion: Rev. A; PackageVersion: Rev. C, 08/2008; PackageReference: TF-BGA-48; PackageDescription: 48-Pin 6 x 8 mm TF-BGA, Pitch 0.75 mm; Supplier 1: Newark; Supplier Part Number 1: 52T1747; Supplier 2: Mouser; Supplier Part Number 2: 870-66WV51216DB70BLI; Organization: 512K x 16; RoHS: Pb-Free; Mounting Technology: Surface Mount; Code_JEDEC: MO-207; ComponentLink1Description: Manufacturer URL; ComponentLink1URL: http://www.issi.com/US/index.shtml; ComponentLink2Description: Datasheet; ComponentLink2URL: http://www.issi.com/WW/pdf/66WV51216DALL-DBLL.pdf; ComponentLink3Description: Package Specification; ComponentLink3URL: http://www.issi.com/WW/pdf/61-64WV25616.pdf
footprint ISSI-TF-BGA-48-6000X8000DE (BGA, 48-Balls, Body 8x6mm, Pitch 0.75mm)
pins: A1 ~{LB} (in) "Lower-byte Control (I/O0-I/O7)", A2 ~{OE} (in) "Output Enable Input", A3 A0 (in) "Address Input", A4 A1 (in) "Address Input", A5 A2 (in) "Address Input", A6 CS2 (in) "Chip Enable Input", B1 I/O8 (io) "Data Input/Output", B2 ~{UB} (in) "Upper-byte Control (I/O8-I/O15)", B3 A3 (in) "Address Input", B4 A4 (in) "Address Input", B5 ~{CS1} (in) "Chip Enable Input", B6 I/O0 (io) "Data Input/Output", C1 I/O9 (io) "Data Input/Output", C2 I/O10 (io) "Data Input/Output", C3 A5 (in) "Address Input", C4 A6 (in) "Address Input", C5 I/O1 (io) "Data Input/Output", C6 I/O2 (io) "Data Input/Output", D1 GND (power) "Ground", D2 I/O11 (io) "Data Input/Output", D3 A17 (in) "Address Input", D4 A7 (in) "Address Input", D5 I/O3 (io) "Data Input/Output", D6 VDD (power) "Power", E1 VDD (power) "Power", E2 I/O12 (io) "Data Input/Output", E3 NC "No Connection", E4 A16 (in) "Address Input", E5 I/O4 (io) "Data Input/Output", E6 GND (power) "Ground", F1 I/O14 (io) "Data Input/Output", F2 I/O13 (io) "Data Input/Output", F3 A14 (in) "Address Input", F4 A15 (in) "Address Input", F5 I/O5 (io) "Data Input/Output", F6 I/O6 (io) "Data Input/Output", G1 I/O15 (io) "Data Input/Output", G2 NC "No Connection", G3 A12 (in) "Address Input", G4 A13 (in) "Address Input", G5 ~{WE} (in) "Write Enable Input", G6 I/O7 (io) "Data Input/Output", H1 A18 (in) "Address Input", H2 A8 (in) "Address Input", H3 A9 (in) "Address Input", H4 A10 (in) "Address Input", H5 A11 (in) "Address Input", H6 NC "No Connection"

## IS66WV51216DBLL-70BLI-TR
designator U?
8 M Low Voltage, Ultra Low Power Pseudo CMOS SRAM, 512 K x 16, -40 to 85 degC, 48-Pin BGA (TF-BGA-48), Pb-Free; Manufacturer: Integrated Silicon Solution Inc (ISSI); PartNumber: IS66WV51216DBLL-70BLI-TR; Density: 8M; Packing: Tape & Reel; Speed (ns): 70; DatasheetVersion: Rev. A; PackageVersion: Rev. C, 08/2008; PackageReference: TF-BGA-48; PackageDescription: 48-Pin 6 x 8 mm TF-BGA, Pitch 0.75 mm; Supplier 1: Mouser; Supplier Part Number 1: 870-66WV51216DB7BLIT; Organization: 512K x 16; RoHS: Pb-Free; Mounting Technology: Surface Mount; Code_JEDEC: MO-207; ComponentLink1Description: Manufacturer URL; ComponentLink1URL: http://www.issi.com/US/index.shtml; ComponentLink2Description: Datasheet; ComponentLink2URL: http://www.issi.com/WW/pdf/66WV51216DALL-DBLL.pdf; ComponentLink3Description: Package Specification; ComponentLink3URL: http://www.issi.com/WW/pdf/61-64WV25616.pdf
footprint ISSI-TF-BGA-48-6000X8000DE (BGA, 48-Balls, Body 8x6mm, Pitch 0.75mm)
pins: A1 ~{LB} (in) "Lower-byte Control (I/O0-I/O7)", A2 ~{OE} (in) "Output Enable Input", A3 A0 (in) "Address Input", A4 A1 (in) "Address Input", A5 A2 (in) "Address Input", A6 CS2 (in) "Chip Enable Input", B1 I/O8 (io) "Data Input/Output", B2 ~{UB} (in) "Upper-byte Control (I/O8-I/O15)", B3 A3 (in) "Address Input", B4 A4 (in) "Address Input", B5 ~{CS1} (in) "Chip Enable Input", B6 I/O0 (io) "Data Input/Output", C1 I/O9 (io) "Data Input/Output", C2 I/O10 (io) "Data Input/Output", C3 A5 (in) "Address Input", C4 A6 (in) "Address Input", C5 I/O1 (io) "Data Input/Output", C6 I/O2 (io) "Data Input/Output", D1 GND (power) "Ground", D2 I/O11 (io) "Data Input/Output", D3 A17 (in) "Address Input", D4 A7 (in) "Address Input", D5 I/O3 (io) "Data Input/Output", D6 VDD (power) "Power", E1 VDD (power) "Power", E2 I/O12 (io) "Data Input/Output", E3 NC "No Connection", E4 A16 (in) "Address Input", E5 I/O4 (io) "Data Input/Output", E6 GND (power) "Ground", F1 I/O14 (io) "Data Input/Output", F2 I/O13 (io) "Data Input/Output", F3 A14 (in) "Address Input", F4 A15 (in) "Address Input", F5 I/O5 (io) "Data Input/Output", F6 I/O6 (io) "Data Input/Output", G1 I/O15 (io) "Data Input/Output", G2 NC "No Connection", G3 A12 (in) "Address Input", G4 A13 (in) "Address Input", G5 ~{WE} (in) "Write Enable Input", G6 I/O7 (io) "Data Input/Output", H1 A18 (in) "Address Input", H2 A8 (in) "Address Input", H3 A9 (in) "Address Input", H4 A10 (in) "Address Input", H5 A11 (in) "Address Input", H6 NC "No Connection"

## IS66WV51216DBLL-70TLI
designator U?
8 M Low Voltage, Ultra Low Power Pseudo CMOS SRAM, 512 K x 16, -40 to 85 degC, 44-Pin SOP (TSOP-2-44), Pb-Free; Manufacturer: Integrated Silicon Solution Inc (ISSI); PartNumber: IS66WV51216DBLL-70TLI; Density: 8M; Packing: Tray / Tube; Speed (ns): 70; DatasheetVersion: Rev. A; PackageVersion: Rev. F, 06/2008; PackageReference: TSOP-2-44; PackageDescription: 44-Pin 400 mil TSOP-2, Body 18.41 x 10.16 mm, Pitch 0.8 mm; Supplier 1: Mouser; Supplier Part Number 1: 870-66WV51216DB70TLI; Organization: 512K x 16; RoHS: Pb-Free; Mounting Technology: Surface Mount; ComponentLink1Description: Manufacturer URL; ComponentLink1URL: http://www.issi.com/US/index.shtml; ComponentLink2Description: Datasheet; ComponentLink2URL: http://www.issi.com/WW/pdf/66WV51216DALL-DBLL.pdf; ComponentLink3Description: Package Specification; ComponentLink3URL: http://www.issi.com/WW/pdf/61-64WV6416EEBLL.pdf
footprint ISSI-TSOP-2-44_N (SOP, 44-Leads, Body 18.5x10.3mm, Pitch 0.8mm, IPC Medium Density)
pins: 1 A4 (in) "Address Inputs", 2 A3 (in) "Address Inputs", 3 A2 (in) "Address Inputs", 4 A1 (in) "Address Inputs", 5 A0 (in) "Address Inputs", 6 ~{CS1} (in) "Chip Enable Input", 7 I/O0 (io) "Data Inputs/Outputs", 8 I/O1 (io) "Data Inputs/Outputs", 9 I/O2 (io) "Data Inputs/Outputs", 10 I/O3 (io) "Data Inputs/Outputs", 11 VDD (power) "Power", 12 GND (power) "Ground", 13 I/O4 (io) "Data Inputs/Outputs", 14 I/O5 (io) "Data Inputs/Outputs", 15 I/O6 (io) "Data Inputs/Outputs", 16 I/O7 (io) "Data Inputs/Outputs", 17 ~{WE} (in) "Write Enable Input", 18 A16 (in) "Address Inputs", 19 A15 (in) "Address Inputs", 20 A14 (in) "Address Inputs", 21 A13 (in) "Address Inputs", 22 A12 (in) "Address Inputs", 23 A17 (in) "Address Inputs", 24 A11 (in) "Address Inputs", 25 A10 (in) "Address Inputs", 26 A9 (in) "Address Inputs", 27 A8 (in) "Address Inputs", 28 A18 (in) "Address Inputs", 29 I/O8 (io) "Data Inputs/Outputs", 30 I/O9 (io) "Data Inputs/Outputs", 31 I/O10 (io) "Data Inputs/Outputs", 32 I/O11 (io) "Data Inputs/Outputs", 33 VDD (power) "Power", 34 GND (power) "Ground", 35 I/O12 (io) "Data Inputs/Outputs", 36 I/O13 (io) "Data Inputs/Outputs", 37 I/O14 (io) "Data Inputs/Outputs", 38 I/O15 (io) "Data Inputs/Outputs", 39 ~{LB} (in) "Lower-byte Control (I/O0-I/O7)", 40 ~{UB} (in) "Upper-byte Control (I/O8-I/O15)", 41 ~{OE} (in) "Output Enable Input", 42 A7 (in) "Address Inputs", 43 A6 (in) "Address Inputs", 44 A5 (in) "Address Inputs"

## IS66WV51216DBLL-70TLI-TR
designator U?
8 M Low Voltage, Ultra Low Power Pseudo CMOS SRAM, 512 K x 16, -40 to 85 degC, 44-Pin SOP (TSOP-2-44), Pb-Free; Manufacturer: Integrated Silicon Solution Inc (ISSI); PartNumber: IS66WV51216DBLL-70TLI-TR; Density: 8M; Packing: Tape & Reel; Speed (ns): 70; DatasheetVersion: Rev. A; PackageVersion: Rev. F, 06/2008; PackageReference: TSOP-2-44; PackageDescription: 44-Pin 400 mil TSOP-2, Body 18.41 x 10.16 mm, Pitch 0.8 mm; Supplier 1: Mouser; Supplier Part Number 1: 870-66WV51216DB70TLT; Organization: 512K x 16; RoHS: Pb-Free; Mounting Technology: Surface Mount; ComponentLink1Description: Manufacturer URL; ComponentLink1URL: http://www.issi.com/US/index.shtml; ComponentLink2Description: Datasheet; ComponentLink2URL: http://www.issi.com/WW/pdf/66WV51216DALL-DBLL.pdf; ComponentLink3Description: Package Specification; ComponentLink3URL: http://www.issi.com/WW/pdf/61-64WV6416EEBLL.pdf
footprint ISSI-TSOP-2-44_N (SOP, 44-Leads, Body 18.5x10.3mm, Pitch 0.8mm, IPC Medium Density)
pins: 1 A4 (in) "Address Inputs", 2 A3 (in) "Address Inputs", 3 A2 (in) "Address Inputs", 4 A1 (in) "Address Inputs", 5 A0 (in) "Address Inputs", 6 ~{CS1} (in) "Chip Enable Input", 7 I/O0 (io) "Data Inputs/Outputs", 8 I/O1 (io) "Data Inputs/Outputs", 9 I/O2 (io) "Data Inputs/Outputs", 10 I/O3 (io) "Data Inputs/Outputs", 11 VDD (power) "Power", 12 GND (power) "Ground", 13 I/O4 (io) "Data Inputs/Outputs", 14 I/O5 (io) "Data Inputs/Outputs", 15 I/O6 (io) "Data Inputs/Outputs", 16 I/O7 (io) "Data Inputs/Outputs", 17 ~{WE} (in) "Write Enable Input", 18 A16 (in) "Address Inputs", 19 A15 (in) "Address Inputs", 20 A14 (in) "Address Inputs", 21 A13 (in) "Address Inputs", 22 A12 (in) "Address Inputs", 23 A17 (in) "Address Inputs", 24 A11 (in) "Address Inputs", 25 A10 (in) "Address Inputs", 26 A9 (in) "Address Inputs", 27 A8 (in) "Address Inputs", 28 A18 (in) "Address Inputs", 29 I/O8 (io) "Data Inputs/Outputs", 30 I/O9 (io) "Data Inputs/Outputs", 31 I/O10 (io) "Data Inputs/Outputs", 32 I/O11 (io) "Data Inputs/Outputs", 33 VDD (power) "Power", 34 GND (power) "Ground", 35 I/O12 (io) "Data Inputs/Outputs", 36 I/O13 (io) "Data Inputs/Outputs", 37 I/O14 (io) "Data Inputs/Outputs", 38 I/O15 (io) "Data Inputs/Outputs", 39 ~{LB} (in) "Lower-byte Control (I/O0-I/O7)", 40 ~{UB} (in) "Upper-byte Control (I/O8-I/O15)", 41 ~{OE} (in) "Output Enable Input", 42 A7 (in) "Address Inputs", 43 A6 (in) "Address Inputs", 44 A5 (in) "Address Inputs"

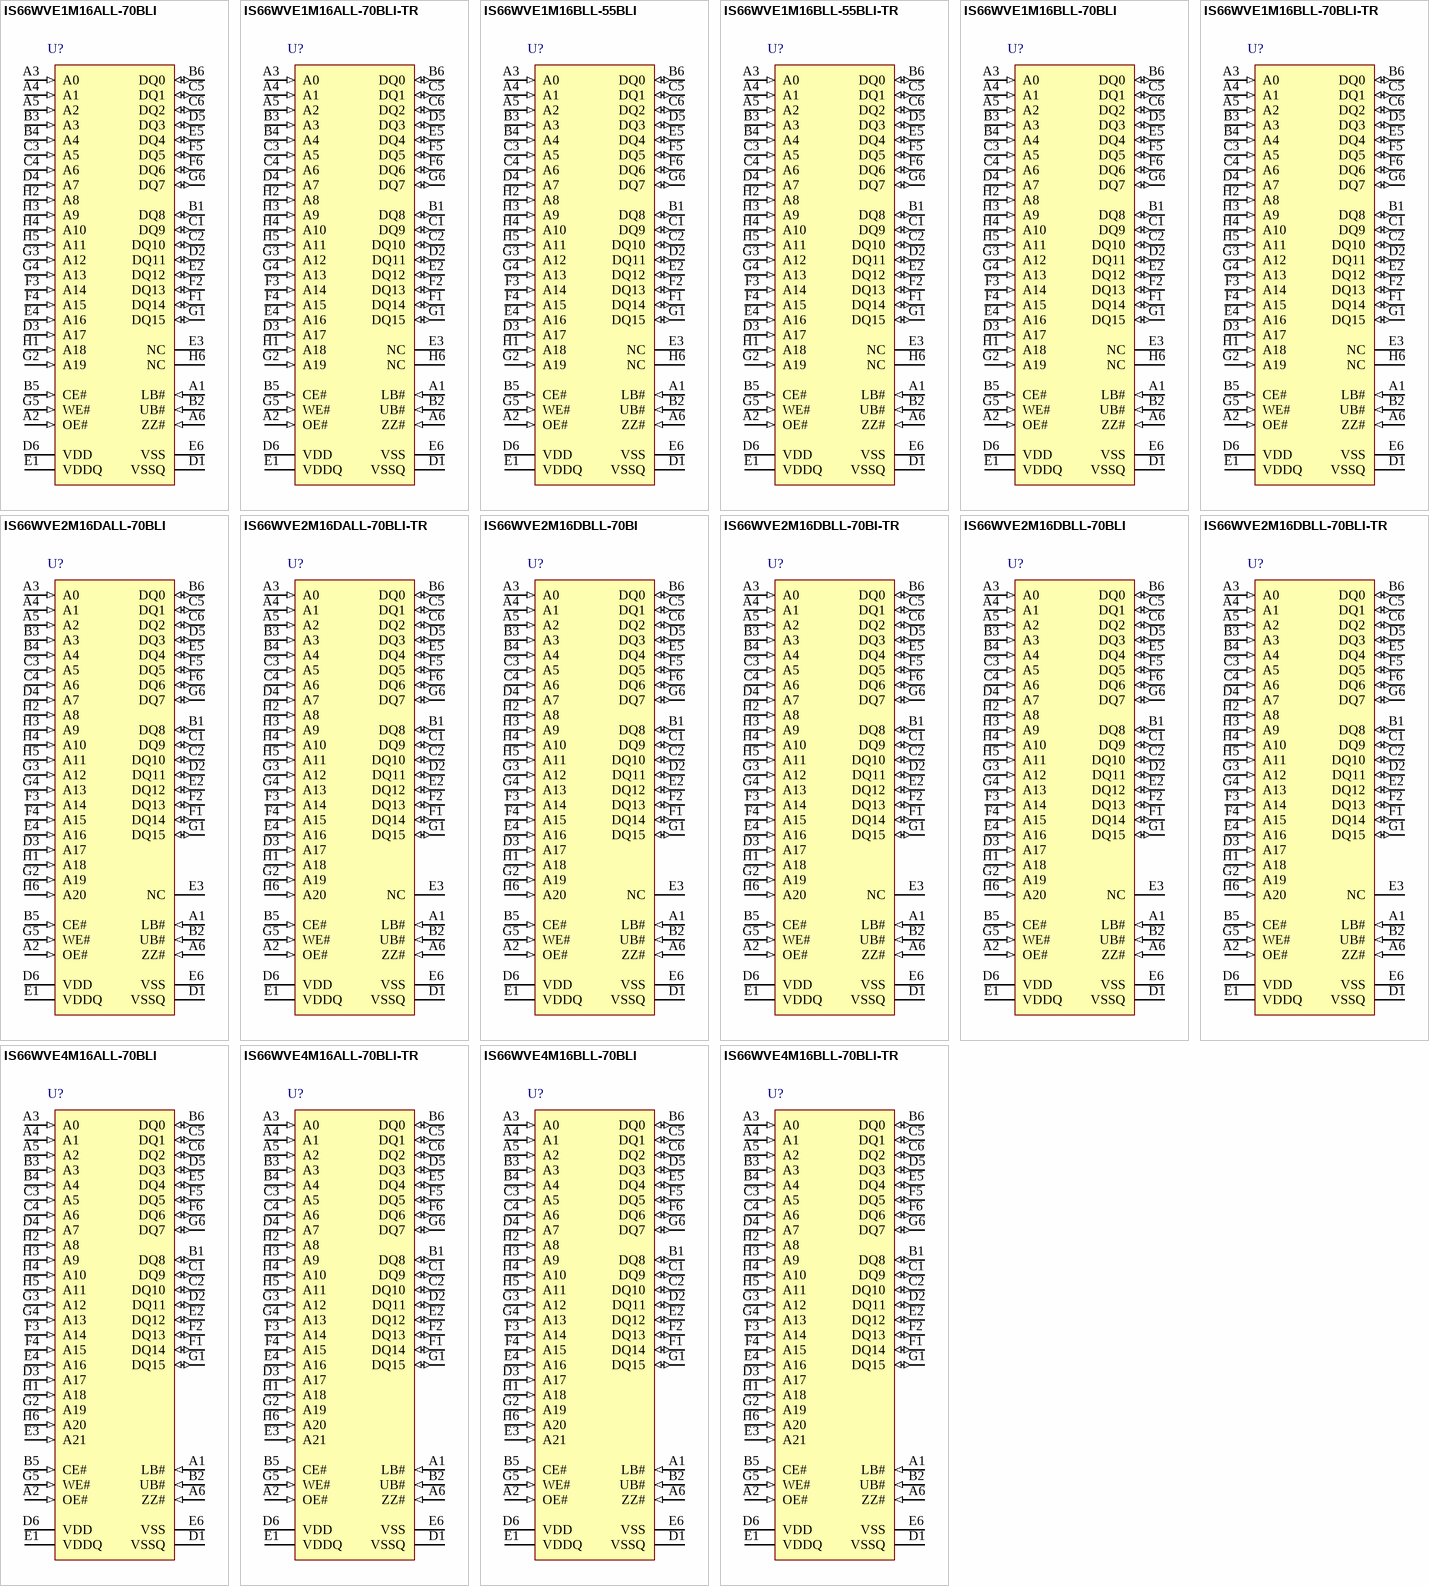
[diagram p1: symbols IS66WVE1M16ALL-70BLI to IS66WVE4M16BLL-70BLI-TR]

## IS66WVE1M16ALL-70BLI
designator U?
16 M 1.8 V Core Async / Page PSRAM, 1 M x 16, -40 to 85 degC, 48-Pin BGA (TF-BGA-48), Pb-Free; Manufacturer: Integrated Silicon Solution Inc (ISSI); PartNumber: IS66WVE1M16ALL-70BLI; Density: 16M; Organization: 1M x 16; Packing: Tray / Tube; Speed (ns): 70; DatasheetVersion: Rev. C; PackageVersion: Rev. C, 08/2008; PackageReference: TF-BGA-48; PackageDescription: 48-Pin 6 x 8 mm TF-BGA, Pitch 0.75 mm; RoHS: Pb-Free; Mounting Technology: Surface Mount; Code_JEDEC: MO-207; ComponentLink1Description: Manufacturer URL; ComponentLink1URL: http://www.issi.com/US/index.shtml; ComponentLink2Description: Datasheet; ComponentLink2URL: http://www.issi.com/WW/pdf/66WVE1M16ALL.pdf; ComponentLink3Description: Package Specification; ComponentLink3URL: http://www.issi.com/WW/pdf/61-64WV25616.pdf
footprint ISSI-TF-BGA-48-6000X8000DE (BGA, 48-Balls, Body 8x6mm, Pitch 0.75mm)
pins: A1 LB# (in) "Lower Byte select", A2 OE# (in) "Output Enable", A3 A0 (in) "Address Input", A4 A1 (in) "Address Input", A5 A2 (in) "Address Input", A6 ZZ# (in) "Sleep enable : When ZZ# is LOW, the CR can be loaded, or the device can enter one of two low-power modes ( DPD or PAR).", B1 DQ8 (io) "Data Input/Output", B2 UB# (in) "Upper Byte select", B3 A3 (in) "Address Input", B4 A4 (in) "Address Input", B5 CE# (in) "Chip Enable/Select", B6 DQ0 (io) "Data Input/Output", C1 DQ9 (io) "Data Input/Output", C2 DQ10 (io) "Data Input/Output", C3 A5 (in) "Address Input", C4 A6 (in) "Address Input", C5 DQ1 (io) "Data Input/Output", C6 DQ2 (io) "Data Input/Output", D1 VSSQ (power) "All VSSQ supply pins must be connected to Ground", D2 DQ11 (io) "Data Input/Output", D3 A17 (in) "Address Input", D4 A7 (in) "Address Input", D5 DQ3 (io) "Data Input/Output", D6 VDD (power) "Core Power supply (1.7V~1.95V)", E1 VDDQ (power) "I/OPower supply(1.7V~1.95V)", E2 DQ12 (io) "Data Input/Output", E3 NC "No Connection", E4 A16 (in) "Address Input", E5 DQ4 (io) "Data Input/Output", E6 VSS (power) "All VSS supply pins must be connected to Ground", F1 DQ14 (io) "Data Input/Output", F2 DQ13 (io) "Data Input/Output", F3 A14 (in) "Address Input", F4 A15 (in) "Address Input", F5 DQ5 (io) "Data Input/Output", F6 DQ6 (io) "Data Input/Output", G1 DQ15 (io) "Data Input/Output", G2 A19 (in) "Address Input", G3 A12 (in) "Address Input", G4 A13 (in) "Address Input", G5 WE# (in) "Write Enable", G6 DQ7 (io) "Data Input/Output", H1 A18 (in) "Address Input", H2 A8 (in) "Address Input", H3 A9 (in) "Address Input", H4 A10 (in) "Address Input", H5 A11 (in) "Address Input", H6 NC "No Connection"